# EAGLE library part INTEL_EDISON (library thanics_robotics)
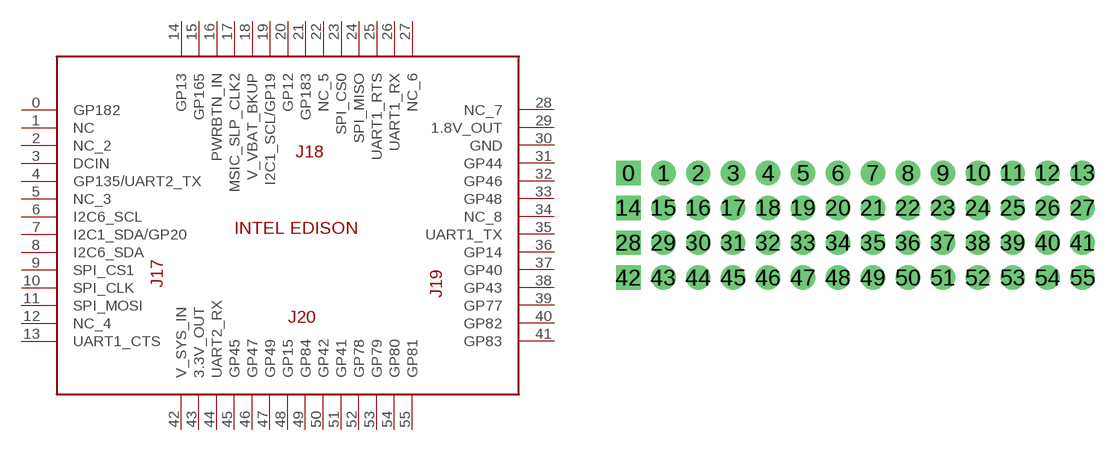
[diagram p1: symbol with the pads of INTEL_EDISON; footprint INTEL_EDISON]

Designator prefix -

## INTEL_EDISON  [INTEL_EDISON]
0  GP182
1  NC  nc
2  NC_2  nc
3  DCIN  pwr
4  GP135/UART2_TX
5  NC_3  nc
6  I2C6_SCL
7  I2C1_SDA/GP20
8  I2C6_SDA
9  SPI_CS1
10  SPI_CLK
11  SPI_MOSI
12  NC_4  nc
13  UART1_CTS
14  GP13
15  GP165
16  PWRBTN_IN  pwr
17  MSIC_SLP_CLK2  pwr
18  V_VBAT_BKUP  pwr
19  I2C1_SCL/GP19
20  GP12
21  GP183
22  NC_5  nc
23  SPI_CS0
24  SPI_MISO
25  UART1_RTS
26  UART1_RX
27  NC_6  nc
28  NC_7  nc
29  1.8V_OUT  pwr
30  GND  pwr
31  GP44
32  GP46
33  GP48
34  NC_8  nc
35  UART1_TX
36  GP14
37  GP40
38  GP43
39  GP77
40  GP82
41  GP83
42  V_SYS_IN  pwr
43  3.3V_OUT  pwr
44  UART2_RX
45  GP45
46  GP47
47  GP49
48  GP15
49  GP84
50  GP42
51  GP41
52  GP78
53  GP79
54  GP80
55  GP81

## Footprint INTEL_EDISON (pad centres in mm)
drill 1 pad 1.778 square: 0 -16.51,3.81; 14 -16.51,1.27; 28 -16.51,-1.27; 42 -16.51,-3.81
drill 1 pad 1.778: 1 -13.97,3.81; 2 -11.43,3.81; 3 -8.89,3.81; 4 -6.35,3.81; 5 -3.81,3.81; 6 -1.27,3.81; 7 1.27,3.81; 8 3.81,3.81; 9 6.35,3.81; 10 8.89,3.81; 11 11.43,3.81; 12 13.97,3.81; 13 16.51,3.81; 15 -13.97,1.27; 16 -11.43,1.27; 17 -8.89,1.27; 18 -6.35,1.27; 19 -3.81,1.27; 20 -1.27,1.27; 21 1.27,1.27; 22 3.81,1.27; 23 6.35,1.27; 24 8.89,1.27; 25 11.43,1.27; 26 13.97,1.27; 27 16.51,1.27; 29 -13.97,-1.27; 30 -11.43,-1.27; 31 -8.89,-1.27; 32 -6.35,-1.27; 33 -3.81,-1.27; 34 -1.27,-1.27; 35 1.27,-1.27; 36 3.81,-1.27; 37 6.35,-1.27; 38 8.89,-1.27; 39 11.43,-1.27; 40 13.97,-1.27; 41 16.51,-1.27; 43 -13.97,-3.81; 44 -11.43,-3.81; 45 -8.89,-3.81; 46 -6.35,-3.81; 47 -3.81,-3.81; 48 -1.27,-3.81; 49 1.27,-3.81; 50 3.81,-3.81; 51 6.35,-3.81; 52 8.89,-3.81; 53 11.43,-3.81; 54 13.97,-3.81; 55 16.51,-3.81